# Altium footprint library mf-psmf050x-2.PcbLib: 1 footprints
Each footprint in its own frame and in the unit in brackets; x right, y up, seen from the top. Pads: shape width x height; smd on the part's side, far side on the other; paste and mask are expansions set on the pad; w line width, h text height; cw(c..) or ccw(c..) is an arc to the next point about the centre after c.
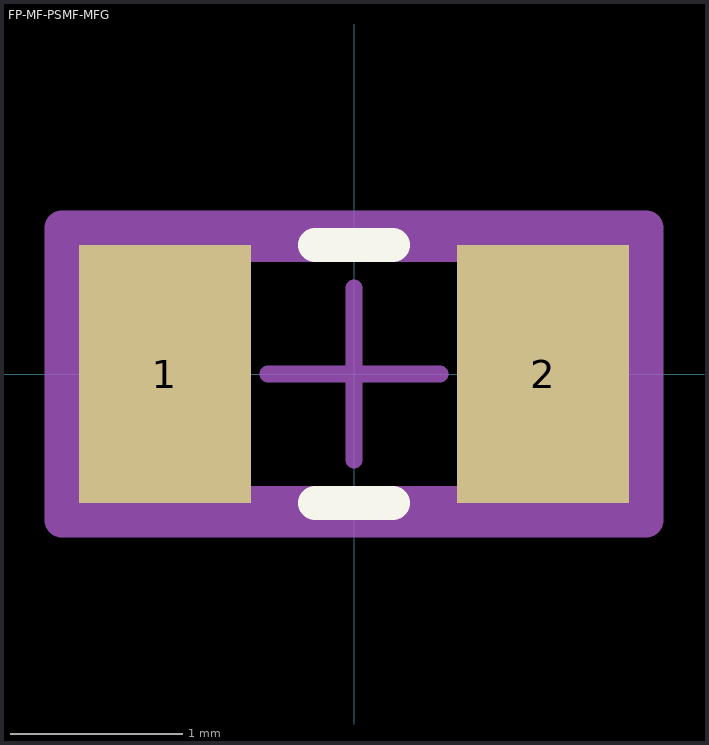
[diagram p0: the footprint, top view; thin cyan lines are the x and y axes]

## FP-MF-PSMF-MFG [mm]
pads (2):
  rect 1x1.5 smd paste+0 mask+0: 1(-1.1,0) 2(1.1,0)
Top Overlay:
  lines w0.2: -0.225,-0.75 0.225,-0.75 ; -0.225,0.75 0.225,0.75
Top Assembly:
  lines w0.2: -1.7,-0.85 1.7,-0.85 1.7,0.85 -1.7,0.85 -1.7,-0.85
  text ".Designator" at 0,0.188 h1
Top 3D Body:
  lines w0.2: -1.15,-0.75 1.15,-0.75 1.15,0.75 -1.15,0.75 -1.15,-0.75
Top Courtyard:
  lines w0.2: -1.7,-0.85 1.7,-0.85 1.7,0.85 -1.7,0.85 -1.7,-0.85
Top Component Center:
  lines w0.1: -0.5,0 0.5,0 ; 0,-0.5 0,0.5
3D body "Fuse_Bourns_MF-PSMF020X-2_eec.STEP": height 0.25, standoff 0, extent -1.7,-0.85 1.7,0.85